# EAGLE library part POLOLU_STEP_DOWN (library zumy_ucr)
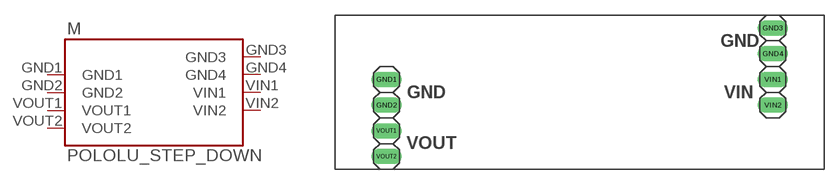
[diagram p0: symbol with the pads of POLOLU_STEP_DOWN; footprint POLOLU_STEP_DOWN]

Designator prefix M

## POLOLU_STEP_DOWN  [POLOLU_STEP_DOWN]
GND1  GND1
GND2  GND2
GND3  GND3
GND4  GND4
VIN1  VIN1
VIN2  VIN2
VOUT1  VOUT1
VOUT2  VOUT2

## Footprint POLOLU_STEP_DOWN (pad centres in mm)
drill 1.016 long: GND1 -19.05,1.27; GND2 -19.05,-1.27; GND3 19.05,6.35; GND4 19.05,3.81; VIN1 19.05,1.27; VIN2 19.05,-1.27; VOUT1 -19.05,-3.81; VOUT2 -19.05,-6.35